# EAGLE library part DRF1276G (library soumilcustom)
DRF1276G
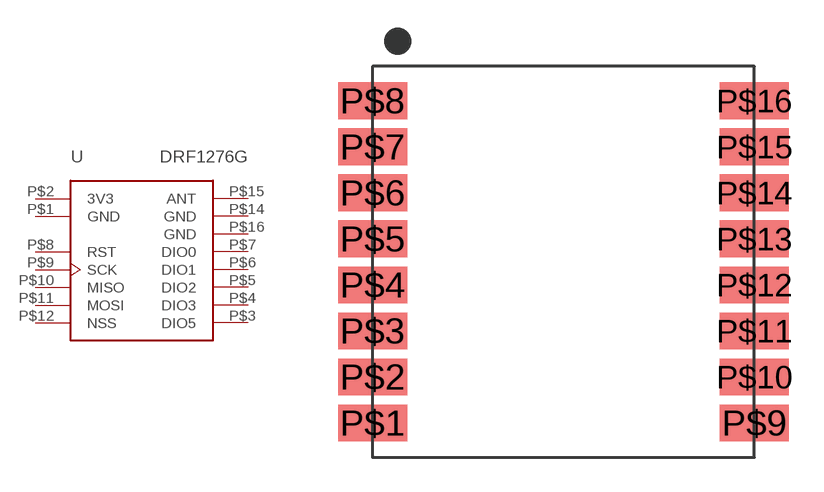
[diagram p5: symbol with the pads of DRF1276G; footprint DRF1276G]

Designator prefix -

## DRF1276G  [DRF1276G]
P$1  GND  pwr
P$2  3V3  pwr
P$3  DIO5
P$4  DIO3
P$5  DIO2
P$6  DIO1
P$7  DIO0
P$8  RST
P$9  SCK
P$10  MISO
P$11  MOSI
P$12  NSS
P$14  GND  pwr
P$15  ANT
P$16  GND  pwr

## Footprint DRF1276G (pad centres in mm)
DRF1276G
smd 3 x 1.6: P$1 -7.62,-7.39; P$2 -7.62,-5.39; P$3 -7.62,-3.39; P$4 -7.62,-1.39; P$5 -7.62,0.61; P$6 -7.62,2.61; P$7 -7.62,4.61; P$8 -7.62,6.61; P$9 8.98,-7.39; P$10 8.98,-5.39; P$11 8.98,-3.39; P$12 8.98,-1.39; P$13 8.98,0.61; P$14 8.98,2.61; P$15 8.98,4.61; P$16 8.98,6.61